# Altium schematic symbol library System.SCHLIB: 32 symbols
Pins are listed as number, name and electrical type; pins without a type are passive.

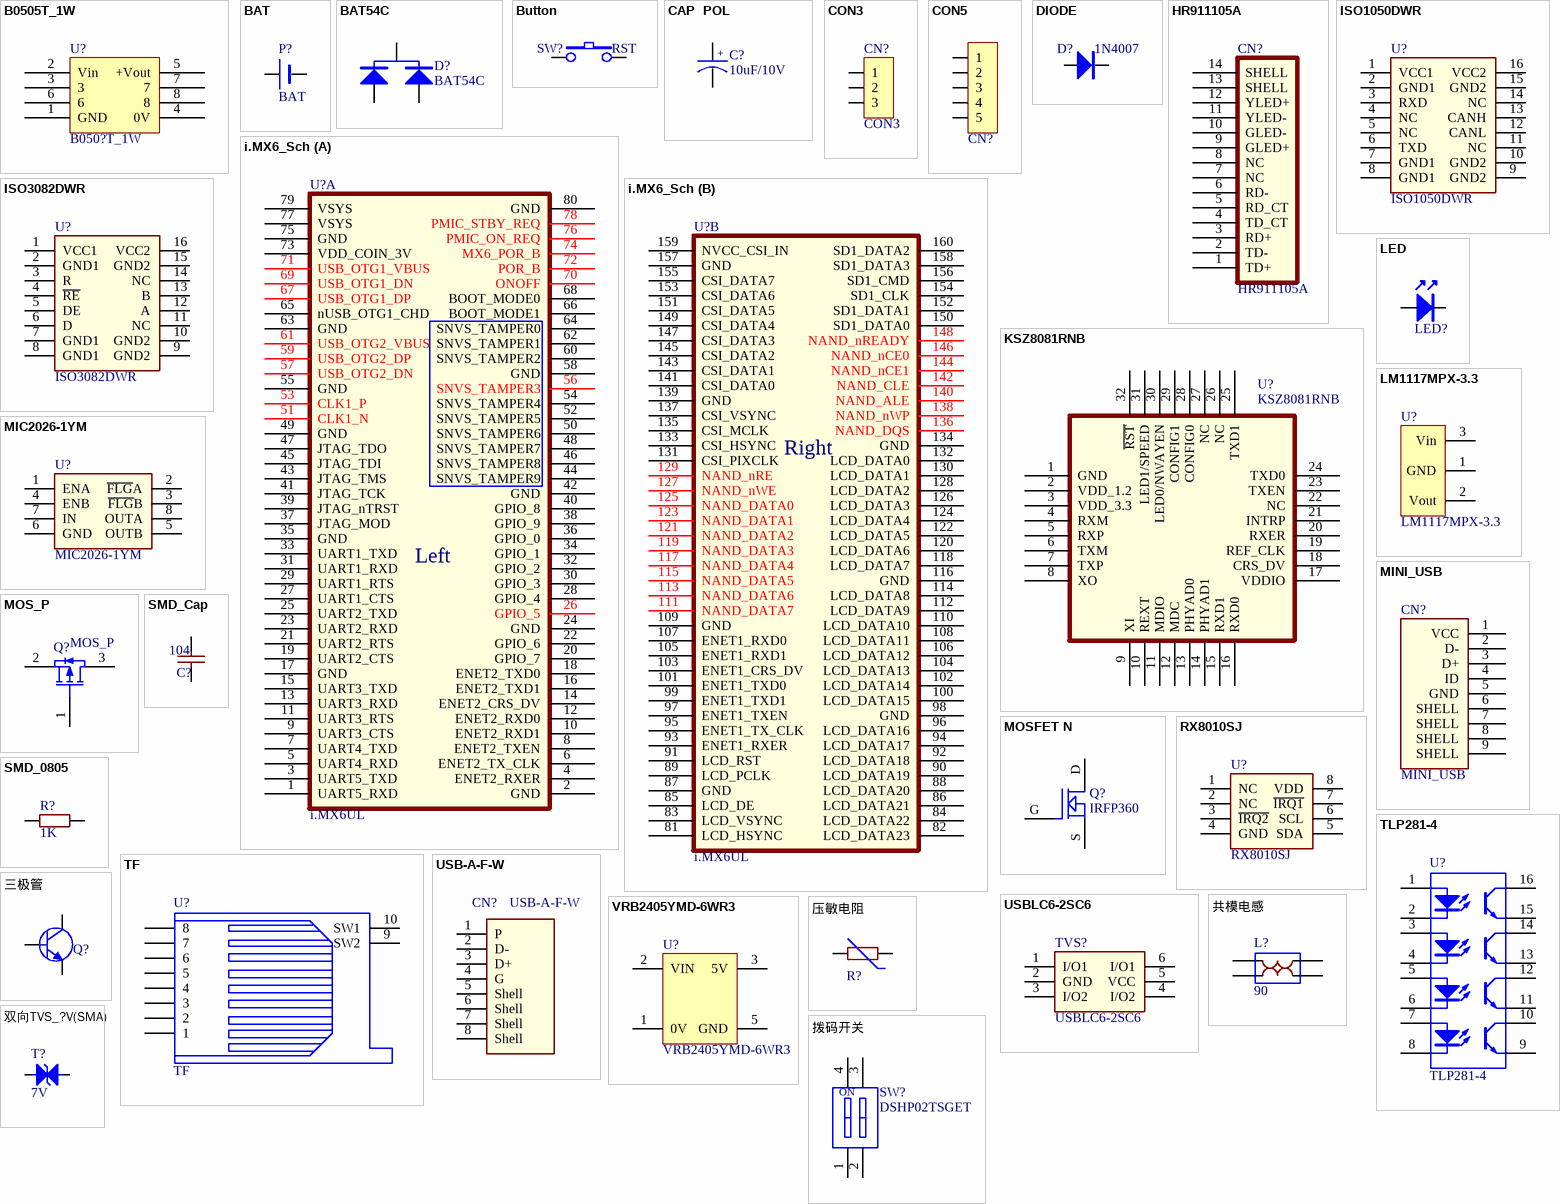
[diagram p0: symbols B0505T_1W to 拨码开关]

## B0505T_1W
designator U?, comment B050?T_1W
footprint B_X_T_1W (1WDC-DC模块)
pins: 1 GND, 2 Vin, 3, 4 0V, 5 +Vout, 6, 7, 8

## BAT
designator P?
footprint CR1220
footprint CR1220
pins: 1 +, 2 -

## BAT54C
designator D?
footprint SOT-23
pins: 1, 2, 3

## Button
designator SW?, comment RST
按键12*12*7.3
footprint 按键12*12*7.3
footprint SW2_12x12 (欧姆龙按钮)
footprint SW4 (按钮侧立式)
pins: 1, 2

## CAP  POL
designator C?, comment 10uF/10V
电解电容; Value: R1HCX010MT50
footprint 电解电容-5
footprint 电解电容-2200
footprint Case B (CaseB_3528)
footprint HONOR_10X105 (贴装铝电解)
footprint HONOR_63X54
footprint CASE C
footprint 电解电容 18*18
footprint 电解电容-10
footprint 电解电容-12
footprint 电解电容10-1
footprint Case D (CaseD_7343)
footprint CASE A (3216)
pins: 1, 2
text: +

## CON3
designator CN?
连接器; 松下: B3PVHB
footprint 连接器DD3
footprint WJ128V-3P
footprint 连接器3X
footprint WJ15EDGRM-3.81-3P-14-00A (3.81间距端子 3p)
pins: 1, 2, 3

## CON5
designator CN?  (value not drawn)
连接器; 松下: B5PVHB; 松下: B5BXH2TV4
footprint 连接器DD5
footprint 连接器5X
footprint WJ15EDGRM-3.81-5P
pins: 1, 2, 3, 4, 5

## DIODE
designator D?, comment 1N4007
二极管
footprint 二极管SOD-123
footprint 发光二极管0805
footprint 二极管SMA (Magnetic-Core Inductor with Windin)
footprint MUR
footprint 二极管12AK
footprint 二极管SMC
pins: A, K

## HR911105A
designator CN?
footprint RJ-45A12
pins: 1 TD+, 2 TD-, 3 RD+, 4 TD_CT, 5 RD_CT, 6 RD-, 7 NC, 8 NC, 9 GLED+, 10 GLED-, 11 YLED-, 12 YLED+, 13 SHELL, 14 SHELL

## i.MX6_Sch
designator U?, comment i.MX6UL
footprint i.MX6_PCB
part A pins: 1 UART5_RXD, 2 GND, 3 UART5_TXD, 4 ENET2_RXER, 5 UART4_RXD, 6 ENET2_TX_CLK, 7 UART4_TXD, 8 ENET2_TXEN, 9 UART3_CTS, 10 ENET2_RXD1, 11 UART3_RTS, 12 ENET2_RXD0, 13 UART3_RXD, 14 ENET2_CRS_DV, 15 UART3_TXD, 16 ENET2_TXD1, 17 GND, 18 ENET2_TXD0, 19 UART2_CTS, 20 GPIO_7, 21 UART2_RTS, 22 GPIO_6, 23 UART2_RXD, 24 GND, 25 UART2_TXD, 26 GPIO_5, 27 UART1_CTS, 28 GPIO_4, 29 UART1_RTS, 30 GPIO_3, 31 UART1_RXD, 32 GPIO_2, 33 UART1_TXD, 34 GPIO_1, 35 GND, 36 GPIO_0, 37 JTAG_MOD, 38 GPIO_9, 39 JTAG_nTRST, 40 GPIO_8, 41 JTAG_TCK, 42 GND, 43 JTAG_TMS, 44 SNVS_TAMPER9, 45 JTAG_TDI, 46 SNVS_TAMPER8, 47 JTAG_TDO, 48 SNVS_TAMPER7, 49 GND, 50 SNVS_TAMPER6, 51 CLK1_N, 52 SNVS_TAMPER5, 53 CLK1_P, 54 SNVS_TAMPER4, 55 GND, 56 SNVS_TAMPER3, 57 USB_OTG2_DN, 58 GND, 59 USB_OTG2_DP, 60 SNVS_TAMPER2, 61 USB_OTG2_VBUS, 62 SNVS_TAMPER1, 63 GND, 64 SNVS_TAMPER0, 65 nUSB_OTG1_CHD, 66 BOOT_MODE1, 67 USB_OTG1_DP, 68 BOOT_MODE0, 69 USB_OTG1_DN, 70 ONOFF, 71 USB_OTG1_VBUS, 72 POR_B, 73 VDD_COIN_3V, 74 MX6_POR_B, 75 GND, 76 PMIC_ON_REQ, 77 VSYS, 78 PMIC_STBY_REQ, 79 VSYS, 80 GND
part B pins: 81 LCD_HSYNC, 82 LCD_DATA23, 83 LCD_VSYNC, 84 LCD_DATA22, 85 LCD_DE, 86 LCD_DATA21, 87 GND, 88 LCD_DATA20, 89 LCD_PCLK, 90 LCD_DATA19, 91 LCD_RST, 92 LCD_DATA18, 93 ENET1_RXER, 94 LCD_DATA17, 95 ENET1_TX_CLK, 96 LCD_DATA16, 97 ENET1_TXEN, 98 GND, 99 ENET1_TXD1, 100 LCD_DATA15, 101 ENET1_TXD0, 102 LCD_DATA14, 103 ENET1_CRS_DV, 104 LCD_DATA13, 105 ENET1_RXD1, 106 LCD_DATA12, 107 ENET1_RXD0, 108 LCD_DATA11, 109 GND, 110 LCD_DATA10, 111 NAND_DATA7, 112 LCD_DATA9, 113 NAND_DATA6, 114 LCD_DATA8, 115 NAND_DATA5, 116 GND, 117 NAND_DATA4, 118 LCD_DATA7, 119 NAND_DATA3, 120 LCD_DATA6, 121 NAND_DATA2, 122 LCD_DATA5, 123 NAND_DATA1, 124 LCD_DATA4, 125 NAND_DATA0, 126 LCD_DATA3, 127 NAND_nWE, 128 LCD_DATA2, 129 NAND_nRE, 130 LCD_DATA1, 131 CSI_PIXCLK, 132 LCD_DATA0, 133 CSI_HSYNC, 134 GND, 135 CSI_MCLK, 136 NAND_DQS, 137 CSI_VSYNC, 138 NAND_nWP, 139 GND, 140 NAND_ALE, 141 CSI_DATA0, 142 NAND_CLE, 143 CSI_DATA1, 144 NAND_nCE1, 145 CSI_DATA2, 146 NAND_nCE0, 147 CSI_DATA3, 148 NAND_nREADY, 149 CSI_DATA4, 150 SD1_DATA0, 151 CSI_DATA5, 152 SD1_DATA1, 153 CSI_DATA6, 154 SD1_CLK, 155 CSI_DATA7, 156 SD1_CMD, 157 GND, 158 SD1_DATA3, 159 NVCC_CSI_IN, 160 SD1_DATA2
part A text: Left
part B text: Right

## ISO1050DWR
designator U?
CAN隔离芯片
footprint SOIC_16
pins: 1 VCC1, 2 GND1, 3 RXD, 4 NC, 5 NC, 6 TXD, 7 GND1, 8 GND1, 9 GND2, 10 GND2, 11 NC, 12 CANL, 13 CANH, 14 NC, 15 GND2, 16 VCC2

## ISO3082DWR
designator U?
485隔离芯片
footprint SOIC_16
pins: 1 VCC1, 2 GND1, 3 R, 4 ~{RE}, 5 DE, 6 D, 7 GND1, 8 GND1, 9 GND2, 10 GND2, 11 NC, 12 A, 13 B, 14 NC, 15 GND2, 16 VCC2

## KSZ8081RNB
designator U?
footprint LC-QFN-32_5x5x05P
pins: 1 GND, 2 VDD_1.2, 3 VDD_3.3 (power), 4 RXM, 5 RXP, 6 TXM, 7 TXP, 8 XO, 9 XI, 10 REXT, 11 MDIO, 12 MDC, 13 PHYAD0, 14 PHYAD1, 15 RXD1, 16 RXD0, 17 VDDIO, 18 CRS_DV, 19 REF_CLK, 20 RXER, 21 INTRP, 22 NC, 23 TXEN, 24 TXD0, 25 TXD1, 26 NC, 27 NC, 28 CONFIG0, 29 CONFIG1, 30 LED0/NWAYEN, 31 LED1/SPEED, 32 ~{RST}

## LED
designator LED?  (value not drawn)
发光二极管
footprint 发光二极管
footprint LED_0805
footprint 发光二极管0805
footprint 1206 -LED
pins: A, K

## LM1117MPX-3.3
designator U?
LM1117 3.3V固定输出; 编号: B00004; 名称: 贴装芯片_LM1117MPX-3.3
footprint SOT-223
pins: 1 GND, 2 Vout, 3 Vin

## MIC2026-1YM
designator U?
footprint 运放SO8 (Smal)
pins: 1 ENA, 2 ~{FLG}A, 3 ~{FLG}B, 4 ENB, 5 OUTB, 6 GND, 7 IN, 8 OUTA

## MINI_USB
designator CN?
footprint MiNi_USB
footprint MICRO_USB
footprint MICRO-USB-F (立式USB座)
pins: 1 VCC (power), 2 D-, 3 D+, 4 ID, 5 GND (power), 6 SHELL, 7 SHELL, 8 SHELL, 9 SHELL

## MOS_P
designator Q?
footprint SOT-23
pins: 1 G, 2 S, 3 D

## MOSFET N
designator Q?, comment IRFP360
MOS管
footprint 稳压块-S-MOS
footprint TO-252-2L
footprint 稳压块-MOS
footprint S-MOS大散热器
footprint 稳压块-S-MOS-540
footprint SOT-23 - MOS
pins: D DRAIN, G GATE, S SOURCE

## RX8010SJ
designator U?
footprint 运放SO8 (Smal)
pins: 1 NC, 2 NC, 3 ~{IRQ2}, 4 GND, 5 SDA, 6 SCL, 7 ~{IR}~{Q1}, 8 VDD

## SMD_0805
designator R?, comment 1K
贴片电阻; 松下: RS05K101FT; 松下: RS05000FT; 松下: RS05K3321FT; 松下: RS05K6811FT; 松下: RS05K102FT; 松下: RS05K2211FT; 松下: RS05K103FT; 松下: RS05K5111FT; 松下: RS05K5110FT; 松下: RS05K5112FT; 松下: RS05K8251FT; 松下: RS05K2212FT; 松下: RS05K104FT; 松下: RS05K5113FT; 松下: RS05K105FT; 松下: RS05L106FT; 研究所: 贴装电阻_0805_0_F1%; 研究所: 贴装电阻_0805_100_F1%; 研究所: 贴装电阻_0805_51.1K_F1%; 研究所: 贴装电阻_0805_1K_F1%; 研究所: 贴装电阻_0805_2.21K_F1%; 研究所: 贴装电阻_0805_3.32K_F1%; 研究所: 贴装电阻_0805_5.11K_F1%; 研究所: 贴装电阻_0805_511K_F1%; 研究所: 贴装电阻_0805_6.81K_F1%; 研究所: 贴装电阻_0805_511_F1%; 研究所: 贴装电阻_0805_8.25K_F1%; 研究所: 贴装电阻_0805_10K_F1%; 研究所: 贴装电阻_0805_22.1K_F1%; 研究所: 贴装电阻_0805_100K_F1%; 研究所: 贴装电阻_0805_1M_F1%; 研究所: 贴装电阻_0805_10M_F1%
footprint 0805_SMD_R
footprint 1206
pins: 1, 2

## SMD_Cap
designator C?, comment 104
贴片电容; 研究所: 贴装电容_0805_0.1uF; 松下: GR21BB1H104K; 松下: GR21BB1H224K; 松下: GR21BB1H103K; 研究所: 贴装电容_0805_0.22uF; 研究所: 贴装电容_0805_0.01uF; 松下: GR21BB1H473K; 研究所: 贴装电容_0805_0.047uF; 松下: GR21BB1H300K; 研究所: 贴装电容_0805_30pF; 松下: GR21BB1H105K; 研究所: 贴装电容_0805_1uF; 松下: GR21BB1H472K; 研究所: 贴装电容_0805_4700pF
footprint 0805SMD_Cap
footprint 1206
pins: 1, 2

## TF
designator U?
footprint TF
footprint TF
pins: 1, 2, 3, 4, 5, 6, 7, 8, 9 SW2, 10 SW1

## TLP281-4
designator U?
footprint SOIC127P700X210-16M
pins: 1 "Anode", 2 "Cathode", 3 "Anode", 4 "Cathode", 5 "Anode", 6 "Cathode", 7 "Anode", 8 "Cathode", 9 "Emitter", 10 "Collector", 11 "Emitter", 12 "Collector", 13 "Emitter", 14 "Collector", 15 "Emitter", 16 "Collector"

## USB-A-F-W
designator CN?
footprint USB-A
footprint USB-C (立式USB)
pins: 1 P, 2 D-, 3 D+, 4 G, 5 Shell, 6 Shell, 7 Shell (power), 8 Shell (power)

## USBLC6-2SC6
designator TVS?
footprint SOT-23-6
pins: 1 I/O1, 2 GND, 3 I/O2, 4 I/O2, 5 VCC, 6 I/O1

## VRB2405YMD-6WR3
designator U?
footprint VRB2405YMD-6WR3 (金升阳DC模块)
pins: 1 0V, 2 VIN, 3 5V, 4 NC hidden, 5 GND

## 三极管
designator Q?, comment 1318  (value not drawn)
三极管; Published: 8-Jun-2000; LatestRevisionDate: 17-Jul-2002; LatestRevisionNote: Re-released for DXP Platform.; PackageReference: TO-226; Publisher: Altium Limited; Code_JEDEC: TO-226-AA
footprint SOT-23
pins: 1 B, 2 E, 3 C

## 共模电感
designator L?, comment 90
footprint 2012 (2.0x1.2x1.0 共模电感)
pins: 1, 2, 3, 4

## 压敏电阻
designator R?, comment 10d330K  (value not drawn)
压敏电阻; 松下: RS05K101FT; 松下: RS05000FT; 松下: RS05K3321FT; 松下: RS05K6811FT; 松下: RS05K102FT; 松下: RS05K2211FT; 松下: RS05K103FT; 松下: RS05K5111FT; 松下: RS05K5110FT; 松下: RS05K5112FT; 松下: RS05K8251FT; 松下: RS05K2212FT; 松下: RS05K104FT; 松下: RS05K5113FT; 松下: RS05K105FT; 松下: RS05L106FT; 研究所: 贴装电阻_0805_0_F1%; 研究所: 贴装电阻_0805_100_F1%; 研究所: 贴装电阻_0805_51.1K_F1%; 研究所: 贴装电阻_0805_1K_F1%; 研究所: 贴装电阻_0805_2.21K_F1%; 研究所: 贴装电阻_0805_3.32K_F1%; 研究所: 贴装电阻_0805_5.11K_F1%; 研究所: 贴装电阻_0805_511K_F1%; 研究所: 贴装电阻_0805_6.81K_F1%; 研究所: 贴装电阻_0805_511_F1%; 研究所: 贴装电阻_0805_8.25K_F1%; 研究所: 贴装电阻_0805_10K_F1%; 研究所: 贴装电阻_0805_22.1K_F1%; 研究所: 贴装电阻_0805_100K_F1%; 研究所: 贴装电阻_0805_1M_F1%; 研究所: 贴装电阻_0805_10M_F1%
footprint RAD0.2 (压敏电阻10d)
pins: 1, 2

## 双向TVS_?V(SMA)
designator T?, comment 7V
双向TVS_?V(SMA); 名称: 贴装元件_双向TVS_7V(SMA)
footprint 二极管SMA (Magnetic-Core Inductor with Windin)
pins: A, K

## 拨码开关
designator SW?, comment DSHP02TSGET
footprint DSHP02TSGET (拨码开关2p 1.27mm)
pins: 1 A1, 2 A2, 3 B2, 4 B1
text: ON